# Altium footprint library Amass_XT60PW-M.PcbLib: 1 footprints
Each footprint in its own frame and in the unit in brackets; x right, y up, seen from the top. Pads: shape width x height; smd on the part's side, far side on the other; paste and mask are expansions set on the pad; w line width, h text height; cw(c..) or ccw(c..) is an arc to the next point about the centre after c.
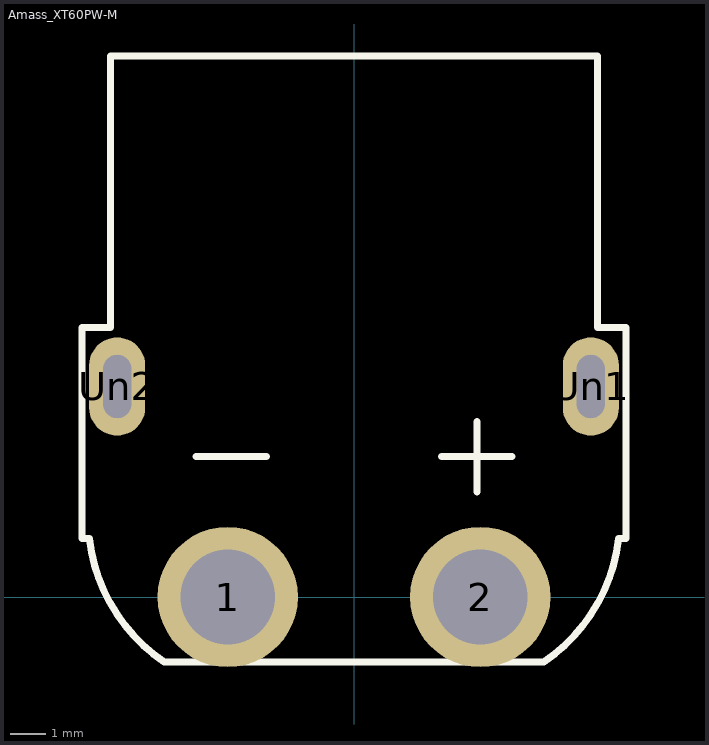
[diagram p0: the footprint, top view; thin cyan lines are the x and y axes]

## Amass_XT60PW-M [mm] "Right angle XT60 Male Socket"
pads (4):
  round 4 hole 2.7: 1(-3.6,0) 2(3.6,0)
  rrect100% 1.6x2.8 hole 1.8 slot 0.8 at 0 deg: Un1(6.75,6) Un2(-6.75,6)
Top Overlay:
  lines w0.2: -4.5,4 -2.5,4 ; 2.5,4 4.5,4 ; 3.5,3 3.5,5 ; -7.757,1.662 -7.543,1.662 ccw(c-2.619,2.247) -5.413,-1.85 0,-1.85 5.413,-1.85 ccw(c2.619,2.247) 7.543,1.662 7.757,1.662 7.757,7.682 6.941,7.682 6.941,15.424 0,15.424 -6.941,15.424 -6.941,7.682 -7.757,7.682 -7.757,1.662
3D body "AMASS_XT60PW_M.STEP": height 8.4, standoff -2.26, extent -7.95,-1.95 7.95,16.3